# Altium integrated library Circuit Protection -TVSP_rev15a (1).intlib: 320 symbols (part 1 of 4)
Pins are listed as number, name and electrical type; pins without a type are passive.

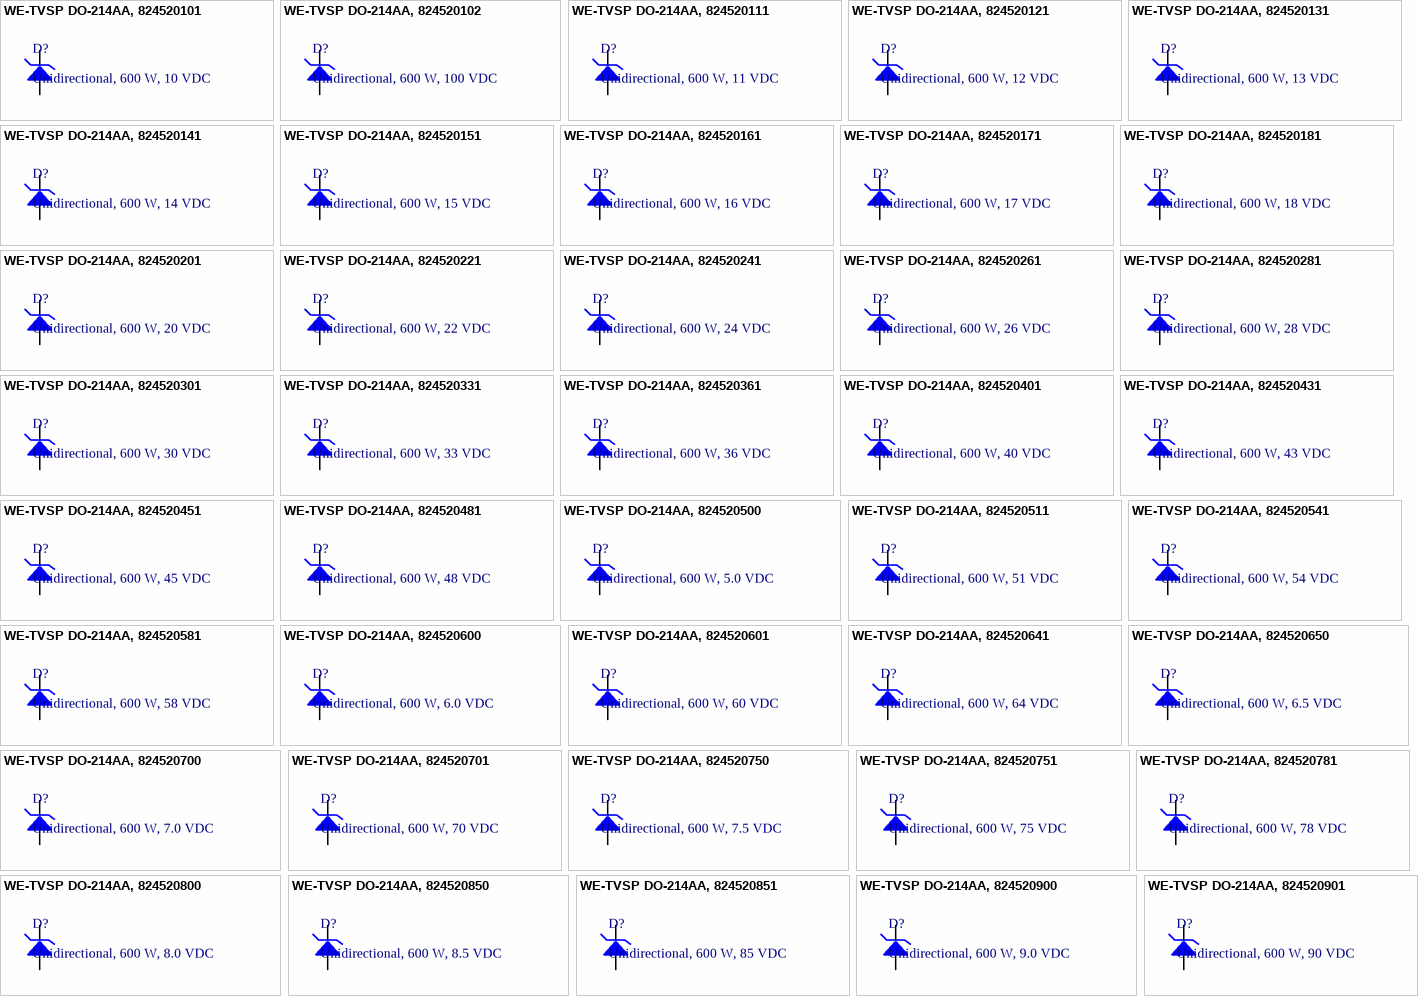
[diagram p0: symbols WE-TVSP DO-214AA, 824520101 to WE-TVSP DO-214AA, 824520901]

## WE-TVSP DO-214AA, 824520101
designator D?, comment Unidirectional, 600 W, 10 VDC
WE-TVSP Power TVS Diode, Unidirectional, 600 W, 10 VDC; partNo: 824520101; Manufacturer: Wurth Elektronik; ComponentLink1Description: Manufacturer; ComponentLink1URL: http://www.we-online.de; Created by: Baojun Chen; Created Date: Nov.2015; ComponentLink2Description: Datasheet; ComponentLink2URL: http://katalog.we-online.de/pbs/datasheet/824520101.pdf
footprint DO-214AA_Unidirectional
pins: 1, 2

## WE-TVSP DO-214AA, 824520102
designator D?, comment Unidirectional, 600 W, 100 VDC
WE-TVSP Power TVS Diode, Unidirectional, 600 W, 100 VDC; partNo: 824520102; Manufacturer: Wurth Elektronik; ComponentLink1Description: Manufacturer; ComponentLink1URL: http://www.we-online.de; Created by: Baojun Chen; Created Date: Nov.2015; ComponentLink2Description: Datasheet; ComponentLink2URL: http://katalog.we-online.de/pbs/datasheet/824520102.pdf
footprint DO-214AA_Unidirectional
pins: 1, 2

## WE-TVSP DO-214AA, 824520111
designator D?, comment Unidirectional, 600 W, 11 VDC
WE-TVSP Power TVS Diode, Unidirectional, 600 W, 11 VDC; partNo: 824520111; Manufacturer: Wurth Elektronik; ComponentLink1Description: Manufacturer; ComponentLink1URL: http://www.we-online.de; Created by: Baojun Chen; Created Date: Nov.2015; ComponentLink2Description: Datasheet; ComponentLink2URL: http://katalog.we-online.de/pbs/datasheet/824520111.pdf
footprint DO-214AA_Unidirectional
pins: 1, 2

## WE-TVSP DO-214AA, 824520121
designator D?, comment Unidirectional, 600 W, 12 VDC
WE-TVSP Power TVS Diode, Unidirectional, 600 W, 12 VDC; partNo: 824520121; Manufacturer: Wurth Elektronik; ComponentLink1Description: Manufacturer; ComponentLink1URL: http://www.we-online.de; Created by: Baojun Chen; Created Date: Nov.2015; ComponentLink2Description: Datasheet; ComponentLink2URL: http://katalog.we-online.de/pbs/datasheet/824520121.pdf
footprint DO-214AA_Unidirectional
pins: 1, 2

## WE-TVSP DO-214AA, 824520131
designator D?, comment Unidirectional, 600 W, 13 VDC
WE-TVSP Power TVS Diode, Unidirectional, 600 W, 13 VDC; partNo: 824520131; Manufacturer: Wurth Elektronik; ComponentLink1Description: Manufacturer; ComponentLink1URL: http://www.we-online.de; Created by: Baojun Chen; Created Date: Nov.2015; ComponentLink2Description: Datasheet; ComponentLink2URL: http://katalog.we-online.de/pbs/datasheet/824520131.pdf
footprint DO-214AA_Unidirectional
pins: 1, 2

## WE-TVSP DO-214AA, 824520141
designator D?, comment Unidirectional, 600 W, 14 VDC
WE-TVSP Power TVS Diode, Unidirectional, 600 W, 14 VDC; partNo: 824520141; Manufacturer: Wurth Elektronik; ComponentLink1Description: Manufacturer; ComponentLink1URL: http://www.we-online.de; Created by: Baojun Chen; Created Date: Nov.2015; ComponentLink2Description: Datasheet; ComponentLink2URL: http://katalog.we-online.de/pbs/datasheet/824520141.pdf
footprint DO-214AA_Unidirectional
pins: 1, 2

## WE-TVSP DO-214AA, 824520151
designator D?, comment Unidirectional, 600 W, 15 VDC
WE-TVSP Power TVS Diode, Unidirectional, 600 W, 15 VDC; partNo: 824520151; Manufacturer: Wurth Elektronik; ComponentLink1Description: Manufacturer; ComponentLink1URL: http://www.we-online.de; Created by: Baojun Chen; Created Date: Nov.2015; ComponentLink2Description: Datasheet; ComponentLink2URL: http://katalog.we-online.de/pbs/datasheet/824520151.pdf
footprint DO-214AA_Unidirectional
pins: 1, 2

## WE-TVSP DO-214AA, 824520161
designator D?, comment Unidirectional, 600 W, 16 VDC
WE-TVSP Power TVS Diode, Unidirectional, 600 W, 16 VDC; partNo: 824520161; Manufacturer: Wurth Elektronik; ComponentLink1Description: Manufacturer; ComponentLink1URL: http://www.we-online.de; Created by: Baojun Chen; Created Date: Nov.2015; ComponentLink2Description: Datasheet; ComponentLink2URL: http://katalog.we-online.de/pbs/datasheet/824520161.pdf
footprint DO-214AA_Unidirectional
pins: 1, 2

## WE-TVSP DO-214AA, 824520171
designator D?, comment Unidirectional, 600 W, 17 VDC
WE-TVSP Power TVS Diode, Unidirectional, 600 W, 17 VDC; partNo: 824520171; Manufacturer: Wurth Elektronik; ComponentLink1Description: Manufacturer; ComponentLink1URL: http://www.we-online.de; Created by: Baojun Chen; Created Date: Nov.2015; ComponentLink2Description: Datasheet; ComponentLink2URL: http://katalog.we-online.de/pbs/datasheet/824520171.pdf
footprint DO-214AA_Unidirectional
pins: 1, 2

## WE-TVSP DO-214AA, 824520181
designator D?, comment Unidirectional, 600 W, 18 VDC
WE-TVSP Power TVS Diode, Unidirectional, 600 W, 18 VDC; partNo: 824520181; Manufacturer: Wurth Elektronik; ComponentLink1Description: Manufacturer; ComponentLink1URL: http://www.we-online.de; Created by: Baojun Chen; Created Date: Nov.2015; ComponentLink2Description: Datasheet; ComponentLink2URL: http://katalog.we-online.de/pbs/datasheet/824520181.pdf
footprint DO-214AA_Unidirectional
pins: 1, 2

## WE-TVSP DO-214AA, 824520201
designator D?, comment Unidirectional, 600 W, 20 VDC
WE-TVSP Power TVS Diode, Unidirectional, 600 W, 20 VDC; partNo: 824520201; Manufacturer: Wurth Elektronik; ComponentLink1Description: Manufacturer; ComponentLink1URL: http://www.we-online.de; Created by: Baojun Chen; Created Date: Nov.2015; ComponentLink2Description: Datasheet; ComponentLink2URL: http://katalog.we-online.de/pbs/datasheet/824520201.pdf
footprint DO-214AA_Unidirectional
pins: 1, 2

## WE-TVSP DO-214AA, 824520221
designator D?, comment Unidirectional, 600 W, 22 VDC
WE-TVSP Power TVS Diode, Unidirectional, 600 W, 22 VDC; partNo: 824520221; Manufacturer: Wurth Elektronik; ComponentLink1Description: Manufacturer; ComponentLink1URL: http://www.we-online.de; Created by: Baojun Chen; Created Date: Nov.2015; ComponentLink2Description: Datasheet; ComponentLink2URL: http://katalog.we-online.de/pbs/datasheet/824520221.pdf
footprint DO-214AA_Unidirectional
pins: 1, 2

## WE-TVSP DO-214AA, 824520241
designator D?, comment Unidirectional, 600 W, 24 VDC
WE-TVSP Power TVS Diode, Unidirectional, 600 W, 24 VDC; partNo: 824520241; Manufacturer: Wurth Elektronik; ComponentLink1Description: Manufacturer; ComponentLink1URL: http://www.we-online.de; Created by: Baojun Chen; Created Date: Nov.2015; ComponentLink2Description: Datasheet; ComponentLink2URL: http://katalog.we-online.de/pbs/datasheet/824520241.pdf
footprint DO-214AA_Unidirectional
pins: 1, 2

## WE-TVSP DO-214AA, 824520261
designator D?, comment Unidirectional, 600 W, 26 VDC
WE-TVSP Power TVS Diode, Unidirectional, 600 W, 26 VDC; partNo: 824520261; Manufacturer: Wurth Elektronik; ComponentLink1Description: Manufacturer; ComponentLink1URL: http://www.we-online.de; Created by: Baojun Chen; Created Date: Nov.2015; ComponentLink2Description: Datasheet; ComponentLink2URL: http://katalog.we-online.de/pbs/datasheet/824520261.pdf
footprint DO-214AA_Unidirectional
pins: 1, 2

## WE-TVSP DO-214AA, 824520281
designator D?, comment Unidirectional, 600 W, 28 VDC
WE-TVSP Power TVS Diode, Unidirectional, 600 W, 28 VDC; partNo: 824520281; Manufacturer: Wurth Elektronik; ComponentLink1Description: Manufacturer; ComponentLink1URL: http://www.we-online.de; Created by: Baojun Chen; Created Date: Nov.2015; ComponentLink2Description: Datasheet; ComponentLink2URL: http://katalog.we-online.de/pbs/datasheet/824520281.pdf
footprint DO-214AA_Unidirectional
pins: 1, 2

## WE-TVSP DO-214AA, 824520301
designator D?, comment Unidirectional, 600 W, 30 VDC
WE-TVSP Power TVS Diode, Unidirectional, 600 W, 30 VDC; partNo: 824520301; Manufacturer: Wurth Elektronik; ComponentLink1Description: Manufacturer; ComponentLink1URL: http://www.we-online.de; Created by: Baojun Chen; Created Date: Nov.2015; ComponentLink2Description: Datasheet; ComponentLink2URL: http://katalog.we-online.de/pbs/datasheet/824520301.pdf
footprint DO-214AA_Unidirectional
pins: 1, 2

## WE-TVSP DO-214AA, 824520331
designator D?, comment Unidirectional, 600 W, 33 VDC
WE-TVSP Power TVS Diode, Unidirectional, 600 W, 33 VDC; partNo: 824520331; Manufacturer: Wurth Elektronik; ComponentLink1Description: Manufacturer; ComponentLink1URL: http://www.we-online.de; Created by: Baojun Chen; Created Date: Nov.2015; ComponentLink2Description: Datasheet; ComponentLink2URL: http://katalog.we-online.de/pbs/datasheet/824520331.pdf
footprint DO-214AA_Unidirectional
pins: 1, 2

## WE-TVSP DO-214AA, 824520361
designator D?, comment Unidirectional, 600 W, 36 VDC
WE-TVSP Power TVS Diode, Unidirectional, 600 W, 36 VDC; partNo: 824520361; Manufacturer: Wurth Elektronik; ComponentLink1Description: Manufacturer; ComponentLink1URL: http://www.we-online.de; Created by: Baojun Chen; Created Date: Nov.2015; ComponentLink2Description: Datasheet; ComponentLink2URL: http://katalog.we-online.de/pbs/datasheet/824520361.pdf
footprint DO-214AA_Unidirectional
pins: 1, 2

## WE-TVSP DO-214AA, 824520401
designator D?, comment Unidirectional, 600 W, 40 VDC
WE-TVSP Power TVS Diode, Unidirectional, 600 W, 40 VDC; partNo: 824520401; Manufacturer: Wurth Elektronik; ComponentLink1Description: Manufacturer; ComponentLink1URL: http://www.we-online.de; Created by: Baojun Chen; Created Date: Nov.2015; ComponentLink2Description: Datasheet; ComponentLink2URL: http://katalog.we-online.de/pbs/datasheet/824520401.pdf
footprint DO-214AA_Unidirectional
pins: 1, 2

## WE-TVSP DO-214AA, 824520431
designator D?, comment Unidirectional, 600 W, 43 VDC
WE-TVSP Power TVS Diode, Unidirectional, 600 W, 43 VDC; partNo: 824520431; Manufacturer: Wurth Elektronik; ComponentLink1Description: Manufacturer; ComponentLink1URL: http://www.we-online.de; Created by: Baojun Chen; Created Date: Nov.2015; ComponentLink2Description: Datasheet; ComponentLink2URL: http://katalog.we-online.de/pbs/datasheet/824520431.pdf
footprint DO-214AA_Unidirectional
pins: 1, 2

## WE-TVSP DO-214AA, 824520451
designator D?, comment Unidirectional, 600 W, 45 VDC
WE-TVSP Power TVS Diode, Unidirectional, 600 W, 45 VDC; partNo: 824520451; Manufacturer: Wurth Elektronik; ComponentLink1Description: Manufacturer; ComponentLink1URL: http://www.we-online.de; Created by: Baojun Chen; Created Date: Nov.2015; ComponentLink2Description: Datasheet; ComponentLink2URL: http://katalog.we-online.de/pbs/datasheet/824520451.pdf
footprint DO-214AA_Unidirectional
pins: 1, 2

## WE-TVSP DO-214AA, 824520481
designator D?, comment Unidirectional, 600 W, 48 VDC
WE-TVSP Power TVS Diode, Unidirectional, 600 W, 48 VDC; partNo: 824520481; Manufacturer: Wurth Elektronik; ComponentLink1Description: Manufacturer; ComponentLink1URL: http://www.we-online.de; Created by: Baojun Chen; Created Date: Nov.2015; ComponentLink2Description: Datasheet; ComponentLink2URL: http://katalog.we-online.de/pbs/datasheet/824520481.pdf
footprint DO-214AA_Unidirectional
pins: 1, 2

## WE-TVSP DO-214AA, 824520500
designator D?, comment Unidirectional, 600 W, 5.0 VDC
WE-TVSP Power TVS Diode, Unidirectional, 600 W, 5.0 VDC; partNo: 824520500; Manufacturer: Wurth Elektronik; ComponentLink1Description: Manufacturer; ComponentLink1URL: http://www.we-online.de; Created by: Baojun Chen; Created Date: Nov.2015; ComponentLink2Description: Datasheet; ComponentLink2URL: http://katalog.we-online.de/pbs/datasheet/824520500.pdf
footprint DO-214AA_Unidirectional
pins: 1, 2

## WE-TVSP DO-214AA, 824520511
designator D?, comment Unidirectional, 600 W, 51 VDC
WE-TVSP Power TVS Diode, Unidirectional, 600 W, 51 VDC; partNo: 824520511; Manufacturer: Wurth Elektronik; ComponentLink1Description: Manufacturer; ComponentLink1URL: http://www.we-online.de; Created by: Baojun Chen; Created Date: Nov.2015; ComponentLink2Description: Datasheet; ComponentLink2URL: http://katalog.we-online.de/pbs/datasheet/824520511.pdf
footprint DO-214AA_Unidirectional
pins: 1, 2

## WE-TVSP DO-214AA, 824520541
designator D?, comment Unidirectional, 600 W, 54 VDC
WE-TVSP Power TVS Diode, Unidirectional, 600 W, 54 VDC; partNo: 824520541; Manufacturer: Wurth Elektronik; ComponentLink1Description: Manufacturer; ComponentLink1URL: http://www.we-online.de; Created by: Baojun Chen; Created Date: Nov.2015; ComponentLink2Description: Datasheet; ComponentLink2URL: http://katalog.we-online.de/pbs/datasheet/824520541.pdf
footprint DO-214AA_Unidirectional
pins: 1, 2

## WE-TVSP DO-214AA, 824520581
designator D?, comment Unidirectional, 600 W, 58 VDC
WE-TVSP Power TVS Diode, Unidirectional, 600 W, 58 VDC; partNo: 824520581; Manufacturer: Wurth Elektronik; ComponentLink1Description: Manufacturer; ComponentLink1URL: http://www.we-online.de; Created by: Baojun Chen; Created Date: Nov.2015; ComponentLink2Description: Datasheet; ComponentLink2URL: http://katalog.we-online.de/pbs/datasheet/824520581.pdf
footprint DO-214AA_Unidirectional
pins: 1, 2

## WE-TVSP DO-214AA, 824520600
designator D?, comment Unidirectional, 600 W, 6.0 VDC
WE-TVSP Power TVS Diode, Unidirectional, 600 W, 6.0 VDC; partNo: 824520600; Manufacturer: Wurth Elektronik; ComponentLink1Description: Manufacturer; ComponentLink1URL: http://www.we-online.de; Created by: Baojun Chen; Created Date: Nov.2015; ComponentLink2Description: Datasheet; ComponentLink2URL: http://katalog.we-online.de/pbs/datasheet/824520600.pdf
footprint DO-214AA_Unidirectional
pins: 1, 2

## WE-TVSP DO-214AA, 824520601
designator D?, comment Unidirectional, 600 W, 60 VDC
WE-TVSP Power TVS Diode, Unidirectional, 600 W, 60 VDC; partNo: 824520601; Manufacturer: Wurth Elektronik; ComponentLink1Description: Manufacturer; ComponentLink1URL: http://www.we-online.de; Created by: Baojun Chen; Created Date: Nov.2015; ComponentLink2Description: Datasheet; ComponentLink2URL: http://katalog.we-online.de/pbs/datasheet/824520601.pdf
footprint DO-214AA_Unidirectional
pins: 1, 2

## WE-TVSP DO-214AA, 824520641
designator D?, comment Unidirectional, 600 W, 64 VDC
WE-TVSP Power TVS Diode, Unidirectional, 600 W, 64 VDC; partNo: 824520641; Manufacturer: Wurth Elektronik; ComponentLink1Description: Manufacturer; ComponentLink1URL: http://www.we-online.de; Created by: Baojun Chen; Created Date: Nov.2015; ComponentLink2Description: Datasheet; ComponentLink2URL: http://katalog.we-online.de/pbs/datasheet/824520641.pdf
footprint DO-214AA_Unidirectional
pins: 1, 2

## WE-TVSP DO-214AA, 824520650
designator D?, comment Unidirectional, 600 W, 6.5 VDC
WE-TVSP Power TVS Diode, Unidirectional, 600 W, 6.5 VDC; partNo: 824520650; Manufacturer: Wurth Elektronik; ComponentLink1Description: Manufacturer; ComponentLink1URL: http://www.we-online.de; Created by: Baojun Chen; Created Date: Nov.2015; ComponentLink2Description: Datasheet; ComponentLink2URL: http://katalog.we-online.de/pbs/datasheet/824520650.pdf
footprint DO-214AA_Unidirectional
pins: 1, 2

## WE-TVSP DO-214AA, 824520700
designator D?, comment Unidirectional, 600 W, 7.0 VDC
WE-TVSP Power TVS Diode, Unidirectional, 600 W, 7.0 VDC; partNo: 824520700; Manufacturer: Wurth Elektronik; ComponentLink1Description: Manufacturer; ComponentLink1URL: http://www.we-online.de; Created by: Baojun Chen; Created Date: Nov.2015; ComponentLink2Description: Datasheet; ComponentLink2URL: http://katalog.we-online.de/pbs/datasheet/824520700.pdf
footprint DO-214AA_Unidirectional
pins: 1, 2

## WE-TVSP DO-214AA, 824520701
designator D?, comment Unidirectional, 600 W, 70 VDC
WE-TVSP Power TVS Diode, Unidirectional, 600 W, 70 VDC; partNo: 824520701; Manufacturer: Wurth Elektronik; ComponentLink1Description: Manufacturer; ComponentLink1URL: http://www.we-online.de; Created by: Baojun Chen; Created Date: Nov.2015; ComponentLink2Description: Datasheet; ComponentLink2URL: http://katalog.we-online.de/pbs/datasheet/824520701.pdf
footprint DO-214AA_Unidirectional
pins: 1, 2

## WE-TVSP DO-214AA, 824520750
designator D?, comment Unidirectional, 600 W, 7.5 VDC
WE-TVSP Power TVS Diode, Unidirectional, 600 W, 7.5 VDC; partNo: 824520750; Manufacturer: Wurth Elektronik; ComponentLink1Description: Manufacturer; ComponentLink1URL: http://www.we-online.de; Created by: Baojun Chen; Created Date: Nov.2015; ComponentLink2Description: Datasheet; ComponentLink2URL: http://katalog.we-online.de/pbs/datasheet/824520750.pdf
footprint DO-214AA_Unidirectional
pins: 1, 2

## WE-TVSP DO-214AA, 824520751
designator D?, comment Unidirectional, 600 W, 75 VDC
WE-TVSP Power TVS Diode, Unidirectional, 600 W, 75 VDC; partNo: 824520751; Manufacturer: Wurth Elektronik; ComponentLink1Description: Manufacturer; ComponentLink1URL: http://www.we-online.de; Created by: Baojun Chen; Created Date: Nov.2015; ComponentLink2Description: Datasheet; ComponentLink2URL: http://katalog.we-online.de/pbs/datasheet/824520751.pdf
footprint DO-214AA_Unidirectional
pins: 1, 2

## WE-TVSP DO-214AA, 824520781
designator D?, comment Unidirectional, 600 W, 78 VDC
WE-TVSP Power TVS Diode, Unidirectional, 600 W, 78 VDC; partNo: 824520781; Manufacturer: Wurth Elektronik; ComponentLink1Description: Manufacturer; ComponentLink1URL: http://www.we-online.de; Created by: Baojun Chen; Created Date: Nov.2015; ComponentLink2Description: Datasheet; ComponentLink2URL: http://katalog.we-online.de/pbs/datasheet/824520781.pdf
footprint DO-214AA_Unidirectional
pins: 1, 2

## WE-TVSP DO-214AA, 824520800
designator D?, comment Unidirectional, 600 W, 8.0 VDC
WE-TVSP Power TVS Diode, Unidirectional, 600 W, 8.0 VDC; partNo: 824520800; Manufacturer: Wurth Elektronik; ComponentLink1Description: Manufacturer; ComponentLink1URL: http://www.we-online.de; Created by: Baojun Chen; Created Date: Nov.2015; ComponentLink2Description: Datasheet; ComponentLink2URL: http://katalog.we-online.de/pbs/datasheet/824520800.pdf
footprint DO-214AA_Unidirectional
pins: 1, 2

## WE-TVSP DO-214AA, 824520850
designator D?, comment Unidirectional, 600 W, 8.5 VDC
WE-TVSP Power TVS Diode, Unidirectional, 600 W, 8.5 VDC; partNo: 824520850; Manufacturer: Wurth Elektronik; ComponentLink1Description: Manufacturer; ComponentLink1URL: http://www.we-online.de; Created by: Baojun Chen; Created Date: Nov.2015; ComponentLink2Description: Datasheet; ComponentLink2URL: http://katalog.we-online.de/pbs/datasheet/824520850.pdf
footprint DO-214AA_Unidirectional
pins: 1, 2

## WE-TVSP DO-214AA, 824520851
designator D?, comment Unidirectional, 600 W, 85 VDC
WE-TVSP Power TVS Diode, Unidirectional, 600 W, 85 VDC; partNo: 824520851; Manufacturer: Wurth Elektronik; ComponentLink1Description: Manufacturer; ComponentLink1URL: http://www.we-online.de; Created by: Baojun Chen; Created Date: Nov.2015; ComponentLink2Description: Datasheet; ComponentLink2URL: http://katalog.we-online.de/pbs/datasheet/824520851.pdf
footprint DO-214AA_Unidirectional
pins: 1, 2

## WE-TVSP DO-214AA, 824520900
designator D?, comment Unidirectional, 600 W, 9.0 VDC
WE-TVSP Power TVS Diode, Unidirectional, 600 W, 9.0 VDC; partNo: 824520900; Manufacturer: Wurth Elektronik; ComponentLink1Description: Manufacturer; ComponentLink1URL: http://www.we-online.de; Created by: Baojun Chen; Created Date: Nov.2015; ComponentLink2Description: Datasheet; ComponentLink2URL: http://katalog.we-online.de/pbs/datasheet/824520900.pdf
footprint DO-214AA_Unidirectional
pins: 1, 2

## WE-TVSP DO-214AA, 824520901
designator D?, comment Unidirectional, 600 W, 90 VDC
WE-TVSP Power TVS Diode, Unidirectional, 600 W, 90 VDC; partNo: 824520901; Manufacturer: Wurth Elektronik; ComponentLink1Description: Manufacturer; ComponentLink1URL: http://www.we-online.de; Created by: Baojun Chen; Created Date: Nov.2015; ComponentLink2Description: Datasheet; ComponentLink2URL: http://katalog.we-online.de/pbs/datasheet/824520901.pdf
footprint DO-214AA_Unidirectional
pins: 1, 2


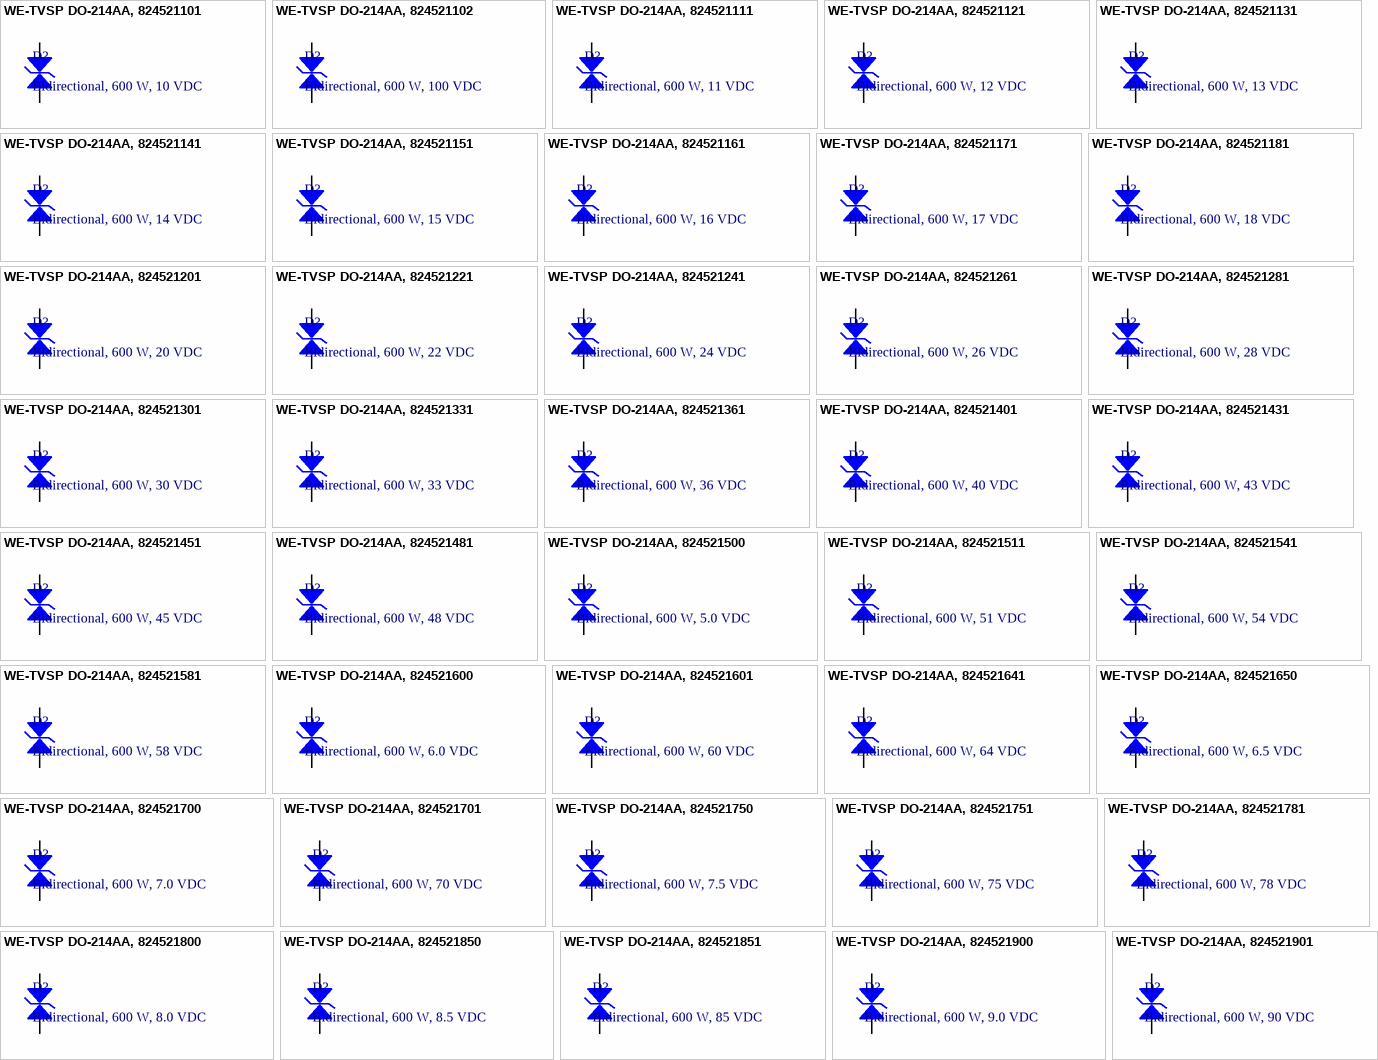
[diagram p1: symbols WE-TVSP DO-214AA, 824521101 to WE-TVSP DO-214AA, 824521901]

## WE-TVSP DO-214AA, 824521101
designator D?, comment Bidirectional, 600 W, 10 VDC
WE-TVSP Power TVS Diode, bidirectional, 600 W, 10 VDC; partNo: 824521101; Manufacturer: Wurth Elektronik; ComponentLink1Description: Manufacturer; ComponentLink1URL: http://www.we-online.de; Created by: Baojun Chen; Created Date: Nov.2015; ComponentLink2Description: Datasheet; ComponentLink2URL: http://katalog.we-online.de/pbs/datasheet/824521101.pdf
footprint DO-214AA_Bidirectional
pins: 1, 2

## WE-TVSP DO-214AA, 824521102
designator D?, comment Bidirectional, 600 W, 100 VDC
WE-TVSP Power TVS Diode, bidirectional, 600 W, 100 VDC; partNo: 824521102; Manufacturer: Wurth Elektronik; ComponentLink1Description: Manufacturer; ComponentLink1URL: http://www.we-online.de; Created by: Baojun Chen; Created Date: Nov.2015; ComponentLink2Description: Datasheet; ComponentLink2URL: http://katalog.we-online.de/pbs/datasheet/824521102.pdf
footprint DO-214AA_Bidirectional
pins: 1, 2

## WE-TVSP DO-214AA, 824521111
designator D?, comment Bidirectional, 600 W, 11 VDC
WE-TVSP Power TVS Diode, bidirectional, 600 W, 11 VDC; partNo: 824521111; Manufacturer: Wurth Elektronik; ComponentLink1Description: Manufacturer; ComponentLink1URL: http://www.we-online.de; Created by: Baojun Chen; Created Date: Nov.2015; ComponentLink2Description: Datasheet; ComponentLink2URL: http://katalog.we-online.de/pbs/datasheet/824521111.pdf
footprint DO-214AA_Bidirectional
pins: 1, 2

## WE-TVSP DO-214AA, 824521121
designator D?, comment Bidirectional, 600 W, 12 VDC
WE-TVSP Power TVS Diode, bidirectional, 600 W, 12 VDC; partNo: 824521121; Manufacturer: Wurth Elektronik; ComponentLink1Description: Manufacturer; ComponentLink1URL: http://www.we-online.de; Created by: Baojun Chen; Created Date: Nov.2015; ComponentLink2Description: Datasheet; ComponentLink2URL: http://katalog.we-online.de/pbs/datasheet/824521121.pdf
footprint DO-214AA_Bidirectional
pins: 1, 2

## WE-TVSP DO-214AA, 824521131
designator D?, comment Bidirectional, 600 W, 13 VDC
WE-TVSP Power TVS Diode, bidirectional, 600 W, 13 VDC; partNo: 824521131; Manufacturer: Wurth Elektronik; ComponentLink1Description: Manufacturer; ComponentLink1URL: http://www.we-online.de; Created by: Baojun Chen; Created Date: Nov.2015; ComponentLink2Description: Datasheet; ComponentLink2URL: http://katalog.we-online.de/pbs/datasheet/824521131.pdf
footprint DO-214AA_Bidirectional
pins: 1, 2

## WE-TVSP DO-214AA, 824521141
designator D?, comment Bidirectional, 600 W, 14 VDC
WE-TVSP Power TVS Diode, bidirectional, 600 W, 14 VDC; partNo: 824521141; Manufacturer: Wurth Elektronik; ComponentLink1Description: Manufacturer; ComponentLink1URL: http://www.we-online.de; Created by: Baojun Chen; Created Date: Nov.2015; ComponentLink2Description: Datasheet; ComponentLink2URL: http://katalog.we-online.de/pbs/datasheet/824521141.pdf
footprint DO-214AA_Bidirectional
pins: 1, 2

## WE-TVSP DO-214AA, 824521151
designator D?, comment Bidirectional, 600 W, 15 VDC
WE-TVSP Power TVS Diode, bidirectional, 600 W, 15 VDC; partNo: 824521151; Manufacturer: Wurth Elektronik; ComponentLink1Description: Manufacturer; ComponentLink1URL: http://www.we-online.de; Created by: Baojun Chen; Created Date: Nov.2015; ComponentLink2Description: Datasheet; ComponentLink2URL: http://katalog.we-online.de/pbs/datasheet/824521151.pdf
footprint DO-214AA_Bidirectional
pins: 1, 2

## WE-TVSP DO-214AA, 824521161
designator D?, comment Bidirectional, 600 W, 16 VDC
WE-TVSP Power TVS Diode, bidirectional, 600 W, 16 VDC; partNo: 824521161; Manufacturer: Wurth Elektronik; ComponentLink1Description: Manufacturer; ComponentLink1URL: http://www.we-online.de; Created by: Baojun Chen; Created Date: Nov.2015; ComponentLink2Description: Datasheet; ComponentLink2URL: http://katalog.we-online.de/pbs/datasheet/824521161.pdf
footprint DO-214AA_Bidirectional
pins: 1, 2

## WE-TVSP DO-214AA, 824521171
designator D?, comment Bidirectional, 600 W, 17 VDC
WE-TVSP Power TVS Diode, bidirectional, 600 W, 17 VDC; partNo: 824521171; Manufacturer: Wurth Elektronik; ComponentLink1Description: Manufacturer; ComponentLink1URL: http://www.we-online.de; Created by: Baojun Chen; Created Date: Nov.2015; ComponentLink2Description: Datasheet; ComponentLink2URL: http://katalog.we-online.de/pbs/datasheet/824521171.pdf
footprint DO-214AA_Bidirectional
pins: 1, 2

## WE-TVSP DO-214AA, 824521181
designator D?, comment Bidirectional, 600 W, 18 VDC
WE-TVSP Power TVS Diode, bidirectional, 600 W, 18 VDC; partNo: 824521181; Manufacturer: Wurth Elektronik; ComponentLink1Description: Manufacturer; ComponentLink1URL: http://www.we-online.de; Created by: Baojun Chen; Created Date: Nov.2015; ComponentLink2Description: Datasheet; ComponentLink2URL: http://katalog.we-online.de/pbs/datasheet/824521181.pdf
footprint DO-214AA_Bidirectional
pins: 1, 2

## WE-TVSP DO-214AA, 824521201
designator D?, comment Bidirectional, 600 W, 20 VDC
WE-TVSP Power TVS Diode, bidirectional, 600 W, 20 VDC; partNo: 824521201; Manufacturer: Wurth Elektronik; ComponentLink1Description: Manufacturer; ComponentLink1URL: http://www.we-online.de; Created by: Baojun Chen; Created Date: Nov.2015; ComponentLink2Description: Datasheet; ComponentLink2URL: http://katalog.we-online.de/pbs/datasheet/824521201.pdf
footprint DO-214AA_Bidirectional
pins: 1, 2

## WE-TVSP DO-214AA, 824521221
designator D?, comment Bidirectional, 600 W, 22 VDC
WE-TVSP Power TVS Diode, bidirectional, 600 W, 22 VDC; partNo: 824521221; Manufacturer: Wurth Elektronik; ComponentLink1Description: Manufacturer; ComponentLink1URL: http://www.we-online.de; Created by: Baojun Chen; Created Date: Nov.2015; ComponentLink2Description: Datasheet; ComponentLink2URL: http://katalog.we-online.de/pbs/datasheet/824521221.pdf
footprint DO-214AA_Bidirectional
pins: 1, 2

## WE-TVSP DO-214AA, 824521241
designator D?, comment Bidirectional, 600 W, 24 VDC
WE-TVSP Power TVS Diode, bidirectional, 600 W, 24 VDC; partNo: 824521241; Manufacturer: Wurth Elektronik; ComponentLink1Description: Manufacturer; ComponentLink1URL: http://www.we-online.de; Created by: Baojun Chen; Created Date: Nov.2015; ComponentLink2Description: Datasheet; ComponentLink2URL: http://katalog.we-online.de/pbs/datasheet/824521241.pdf
footprint DO-214AA_Bidirectional
pins: 1, 2

## WE-TVSP DO-214AA, 824521261
designator D?, comment Bidirectional, 600 W, 26 VDC
WE-TVSP Power TVS Diode, bidirectional, 600 W, 26 VDC; partNo: 824521261; Manufacturer: Wurth Elektronik; ComponentLink1Description: Manufacturer; ComponentLink1URL: http://www.we-online.de; Created by: Baojun Chen; Created Date: Nov.2015; ComponentLink2Description: Datasheet; ComponentLink2URL: http://katalog.we-online.de/pbs/datasheet/824521261.pdf
footprint DO-214AA_Bidirectional
pins: 1, 2

## WE-TVSP DO-214AA, 824521281
designator D?, comment Bidirectional, 600 W, 28 VDC
WE-TVSP Power TVS Diode, bidirectional, 600 W, 28 VDC; partNo: 824521281; Manufacturer: Wurth Elektronik; ComponentLink1Description: Manufacturer; ComponentLink1URL: http://www.we-online.de; Created by: Baojun Chen; Created Date: Nov.2015; ComponentLink2Description: Datasheet; ComponentLink2URL: http://katalog.we-online.de/pbs/datasheet/824521281.pdf
footprint DO-214AA_Bidirectional
pins: 1, 2

## WE-TVSP DO-214AA, 824521301
designator D?, comment Bidirectional, 600 W, 30 VDC
WE-TVSP Power TVS Diode, bidirectional, 600 W, 30 VDC; partNo: 824521301; Manufacturer: Wurth Elektronik; ComponentLink1Description: Manufacturer; ComponentLink1URL: http://www.we-online.de; Created by: Baojun Chen; Created Date: Nov.2015; ComponentLink2Description: Datasheet; ComponentLink2URL: http://katalog.we-online.de/pbs/datasheet/824521301.pdf
footprint DO-214AA_Bidirectional
pins: 1, 2

## WE-TVSP DO-214AA, 824521331
designator D?, comment Bidirectional, 600 W, 33 VDC
WE-TVSP Power TVS Diode, bidirectional, 600 W, 33 VDC; partNo: 824521331; Manufacturer: Wurth Elektronik; ComponentLink1Description: Manufacturer; ComponentLink1URL: http://www.we-online.de; Created by: Baojun Chen; Created Date: Nov.2015; ComponentLink2Description: Datasheet; ComponentLink2URL: http://katalog.we-online.de/pbs/datasheet/824521331.pdf
footprint DO-214AA_Bidirectional
pins: 1, 2

## WE-TVSP DO-214AA, 824521361
designator D?, comment Bidirectional, 600 W, 36 VDC
WE-TVSP Power TVS Diode, bidirectional, 600 W, 36 VDC; partNo: 824521361; Manufacturer: Wurth Elektronik; ComponentLink1Description: Manufacturer; ComponentLink1URL: http://www.we-online.de; Created by: Baojun Chen; Created Date: Nov.2015; ComponentLink2Description: Datasheet; ComponentLink2URL: http://katalog.we-online.de/pbs/datasheet/824521361.pdf
footprint DO-214AA_Bidirectional
pins: 1, 2

## WE-TVSP DO-214AA, 824521401
designator D?, comment Bidirectional, 600 W, 40 VDC
WE-TVSP Power TVS Diode, bidirectional, 600 W, 40 VDC; partNo: 824521401; Manufacturer: Wurth Elektronik; ComponentLink1Description: Manufacturer; ComponentLink1URL: http://www.we-online.de; Created by: Baojun Chen; Created Date: Nov.2015; ComponentLink2Description: Datasheet; ComponentLink2URL: http://katalog.we-online.de/pbs/datasheet/824521401.pdf
footprint DO-214AA_Bidirectional
pins: 1, 2

## WE-TVSP DO-214AA, 824521431
designator D?, comment Bidirectional, 600 W, 43 VDC
WE-TVSP Power TVS Diode, bidirectional, 600 W, 43 VDC; partNo: 824521431; Manufacturer: Wurth Elektronik; ComponentLink1Description: Manufacturer; ComponentLink1URL: http://www.we-online.de; Created by: Baojun Chen; Created Date: Nov.2015; ComponentLink2Description: Datasheet; ComponentLink2URL: http://katalog.we-online.de/pbs/datasheet/824521431.pdf
footprint DO-214AA_Bidirectional
pins: 1, 2

## WE-TVSP DO-214AA, 824521451
designator D?, comment Bidirectional, 600 W, 45 VDC
WE-TVSP Power TVS Diode, bidirectional, 600 W, 45 VDC; partNo: 824521451; Manufacturer: Wurth Elektronik; ComponentLink1Description: Manufacturer; ComponentLink1URL: http://www.we-online.de; Created by: Baojun Chen; Created Date: Nov.2015; ComponentLink2Description: Datasheet; ComponentLink2URL: http://katalog.we-online.de/pbs/datasheet/824521451.pdf
footprint DO-214AA_Bidirectional
pins: 1, 2

## WE-TVSP DO-214AA, 824521481
designator D?, comment Bidirectional, 600 W, 48 VDC
WE-TVSP Power TVS Diode, bidirectional, 600 W, 48 VDC; partNo: 824521481; Manufacturer: Wurth Elektronik; ComponentLink1Description: Manufacturer; ComponentLink1URL: http://www.we-online.de; Created by: Baojun Chen; Created Date: Nov.2015; ComponentLink2Description: Datasheet; ComponentLink2URL: http://katalog.we-online.de/pbs/datasheet/824521481.pdf
footprint DO-214AA_Bidirectional
pins: 1, 2

## WE-TVSP DO-214AA, 824521500
designator D?, comment Bidirectional, 600 W, 5.0 VDC
WE-TVSP Power TVS Diode, bidirectional, 600 W, 5.0 VDC; partNo: 824521500; Manufacturer: Wurth Elektronik; ComponentLink1Description: Manufacturer; ComponentLink1URL: http://www.we-online.de; Created by: Baojun Chen; Created Date: Nov.2015; ComponentLink2Description: Datasheet; ComponentLink2URL: http://katalog.we-online.de/pbs/datasheet/824521500.pdf
footprint DO-214AA_Bidirectional
pins: 1, 2

## WE-TVSP DO-214AA, 824521511
designator D?, comment Bidirectional, 600 W, 51 VDC
WE-TVSP Power TVS Diode, bidirectional, 600 W, 51 VDC; partNo: 824521511; Manufacturer: Wurth Elektronik; ComponentLink1Description: Manufacturer; ComponentLink1URL: http://www.we-online.de; Created by: Baojun Chen; Created Date: Nov.2015; ComponentLink2Description: Datasheet; ComponentLink2URL: http://katalog.we-online.de/pbs/datasheet/824521511.pdf
footprint DO-214AA_Bidirectional
pins: 1, 2

## WE-TVSP DO-214AA, 824521541
designator D?, comment Bidirectional, 600 W, 54 VDC
WE-TVSP Power TVS Diode, bidirectional, 600 W, 54 VDC; partNo: 824521541; Manufacturer: Wurth Elektronik; ComponentLink1Description: Manufacturer; ComponentLink1URL: http://www.we-online.de; Created by: Baojun Chen; Created Date: Nov.2015; ComponentLink2Description: Datasheet; ComponentLink2URL: http://katalog.we-online.de/pbs/datasheet/824521541.pdf
footprint DO-214AA_Bidirectional
pins: 1, 2

## WE-TVSP DO-214AA, 824521581
designator D?, comment Bidirectional, 600 W, 58 VDC
WE-TVSP Power TVS Diode, bidirectional, 600 W, 58 VDC; partNo: 824521581; Manufacturer: Wurth Elektronik; ComponentLink1Description: Manufacturer; ComponentLink1URL: http://www.we-online.de; Created by: Baojun Chen; Created Date: Nov.2015; ComponentLink2Description: Datasheet; ComponentLink2URL: http://katalog.we-online.de/pbs/datasheet/824521581.pdf
footprint DO-214AA_Bidirectional
pins: 1, 2

## WE-TVSP DO-214AA, 824521600
designator D?, comment Bidirectional, 600 W, 6.0 VDC
WE-TVSP Power TVS Diode, bidirectional, 600 W, 6.0 VDC; partNo: 824521600; Manufacturer: Wurth Elektronik; ComponentLink1Description: Manufacturer; ComponentLink1URL: http://www.we-online.de; Created by: Baojun Chen; Created Date: Nov.2015; ComponentLink2Description: Datasheet; ComponentLink2URL: http://katalog.we-online.de/pbs/datasheet/824521600.pdf
footprint DO-214AA_Bidirectional
pins: 1, 2

## WE-TVSP DO-214AA, 824521601
designator D?, comment Bidirectional, 600 W, 60 VDC
WE-TVSP Power TVS Diode, bidirectional, 600 W, 60 VDC; partNo: 824521601; Manufacturer: Wurth Elektronik; ComponentLink1Description: Manufacturer; ComponentLink1URL: http://www.we-online.de; Created by: Baojun Chen; Created Date: Nov.2015; ComponentLink2Description: Datasheet; ComponentLink2URL: http://katalog.we-online.de/pbs/datasheet/824521601.pdf
footprint DO-214AA_Bidirectional
pins: 1, 2

## WE-TVSP DO-214AA, 824521641
designator D?, comment Bidirectional, 600 W, 64 VDC
WE-TVSP Power TVS Diode, bidirectional, 600 W, 64 VDC; partNo: 824521641; Manufacturer: Wurth Elektronik; ComponentLink1Description: Manufacturer; ComponentLink1URL: http://www.we-online.de; Created by: Baojun Chen; Created Date: Nov.2015; ComponentLink2Description: Datasheet; ComponentLink2URL: http://katalog.we-online.de/pbs/datasheet/824521641.pdf
footprint DO-214AA_Bidirectional
pins: 1, 2

## WE-TVSP DO-214AA, 824521650
designator D?, comment Bidirectional, 600 W, 6.5 VDC
WE-TVSP Power TVS Diode, bidirectional, 600 W, 6.5 VDC; partNo: 824521650; Manufacturer: Wurth Elektronik; ComponentLink1Description: Manufacturer; ComponentLink1URL: http://www.we-online.de; Created by: Baojun Chen; Created Date: Nov.2015; ComponentLink2Description: Datasheet; ComponentLink2URL: http://katalog.we-online.de/pbs/datasheet/824521650.pdf
footprint DO-214AA_Bidirectional
pins: 1, 2

## WE-TVSP DO-214AA, 824521700
designator D?, comment Bidirectional, 600 W, 7.0 VDC
WE-TVSP Power TVS Diode, bidirectional, 600 W, 7.0 VDC; partNo: 824521700; Manufacturer: Wurth Elektronik; ComponentLink1Description: Manufacturer; ComponentLink1URL: http://www.we-online.de; Created by: Baojun Chen; Created Date: Nov.2015; ComponentLink2Description: Datasheet; ComponentLink2URL: http://katalog.we-online.de/pbs/datasheet/824521700.pdf
footprint DO-214AA_Bidirectional
pins: 1, 2

## WE-TVSP DO-214AA, 824521701
designator D?, comment Bidirectional, 600 W, 70 VDC
WE-TVSP Power TVS Diode, bidirectional, 600 W, 70 VDC; partNo: 824521701; Manufacturer: Wurth Elektronik; ComponentLink1Description: Manufacturer; ComponentLink1URL: http://www.we-online.de; Created by: Baojun Chen; Created Date: Nov.2015; ComponentLink2Description: Datasheet; ComponentLink2URL: http://katalog.we-online.de/pbs/datasheet/824521701.pdf
footprint DO-214AA_Bidirectional
pins: 1, 2

## WE-TVSP DO-214AA, 824521750
designator D?, comment Bidirectional, 600 W, 7.5 VDC
WE-TVSP Power TVS Diode, bidirectional, 600 W, 7.5 VDC; partNo: 824521750; Manufacturer: Wurth Elektronik; ComponentLink1Description: Manufacturer; ComponentLink1URL: http://www.we-online.de; Created by: Baojun Chen; Created Date: Nov.2015; ComponentLink2Description: Datasheet; ComponentLink2URL: http://katalog.we-online.de/pbs/datasheet/824521750.pdf
footprint DO-214AA_Bidirectional
pins: 1, 2

## WE-TVSP DO-214AA, 824521751
designator D?, comment Bidirectional, 600 W, 75 VDC
WE-TVSP Power TVS Diode, bidirectional, 600 W, 75 VDC; partNo: 824521751; Manufacturer: Wurth Elektronik; ComponentLink1Description: Manufacturer; ComponentLink1URL: http://www.we-online.de; Created by: Baojun Chen; Created Date: Nov.2015; ComponentLink2Description: Datasheet; ComponentLink2URL: http://katalog.we-online.de/pbs/datasheet/824521751.pdf
footprint DO-214AA_Bidirectional
pins: 1, 2

## WE-TVSP DO-214AA, 824521781
designator D?, comment Bidirectional, 600 W, 78 VDC
WE-TVSP Power TVS Diode, bidirectional, 600 W, 78 VDC; partNo: 824521781; Manufacturer: Wurth Elektronik; ComponentLink1Description: Manufacturer; ComponentLink1URL: http://www.we-online.de; Created by: Baojun Chen; Created Date: Nov.2015; ComponentLink2Description: Datasheet; ComponentLink2URL: http://katalog.we-online.de/pbs/datasheet/824521781.pdf
footprint DO-214AA_Bidirectional
pins: 1, 2

## WE-TVSP DO-214AA, 824521800
designator D?, comment Bidirectional, 600 W, 8.0 VDC
WE-TVSP Power TVS Diode, bidirectional, 600 W, 8.0 VDC; partNo: 824521800; Manufacturer: Wurth Elektronik; ComponentLink1Description: Manufacturer; ComponentLink1URL: http://www.we-online.de; Created by: Baojun Chen; Created Date: Nov.2015; ComponentLink2Description: Datasheet; ComponentLink2URL: http://katalog.we-online.de/pbs/datasheet/824521800.pdf
footprint DO-214AA_Bidirectional
pins: 1, 2

## WE-TVSP DO-214AA, 824521850
designator D?, comment Bidirectional, 600 W, 8.5 VDC
WE-TVSP Power TVS Diode, bidirectional, 600 W, 8.5 VDC; partNo: 824521850; Manufacturer: Wurth Elektronik; ComponentLink1Description: Manufacturer; ComponentLink1URL: http://www.we-online.de; Created by: Baojun Chen; Created Date: Nov.2015; ComponentLink2Description: Datasheet; ComponentLink2URL: http://katalog.we-online.de/pbs/datasheet/824521850.pdf
footprint DO-214AA_Bidirectional
pins: 1, 2

## WE-TVSP DO-214AA, 824521851
designator D?, comment Bidirectional, 600 W, 85 VDC
WE-TVSP Power TVS Diode, bidirectional, 600 W, 85 VDC; partNo: 824521851; Manufacturer: Wurth Elektronik; ComponentLink1Description: Manufacturer; ComponentLink1URL: http://www.we-online.de; Created by: Baojun Chen; Created Date: Nov.2015; ComponentLink2Description: Datasheet; ComponentLink2URL: http://katalog.we-online.de/pbs/datasheet/824521851.pdf
footprint DO-214AA_Bidirectional
pins: 1, 2

## WE-TVSP DO-214AA, 824521900
designator D?, comment Bidirectional, 600 W, 9.0 VDC
WE-TVSP Power TVS Diode, bidirectional, 600 W, 9.0 VDC; partNo: 824521900; Manufacturer: Wurth Elektronik; ComponentLink1Description: Manufacturer; ComponentLink1URL: http://www.we-online.de; Created by: Baojun Chen; Created Date: Nov.2015; ComponentLink2Description: Datasheet; ComponentLink2URL: http://katalog.we-online.de/pbs/datasheet/824521900.pdf
footprint DO-214AA_Bidirectional
pins: 1, 2

## WE-TVSP DO-214AA, 824521901
designator D?, comment Bidirectional, 600 W, 90 VDC
WE-TVSP Power TVS Diode, bidirectional, 600 W, 90 VDC; partNo: 824521901; Manufacturer: Wurth Elektronik; ComponentLink1Description: Manufacturer; ComponentLink1URL: http://www.we-online.de; Created by: Baojun Chen; Created Date: Nov.2015; ComponentLink2Description: Datasheet; ComponentLink2URL: http://katalog.we-online.de/pbs/datasheet/824521901.pdf
footprint DO-214AA_Bidirectional
pins: 1, 2


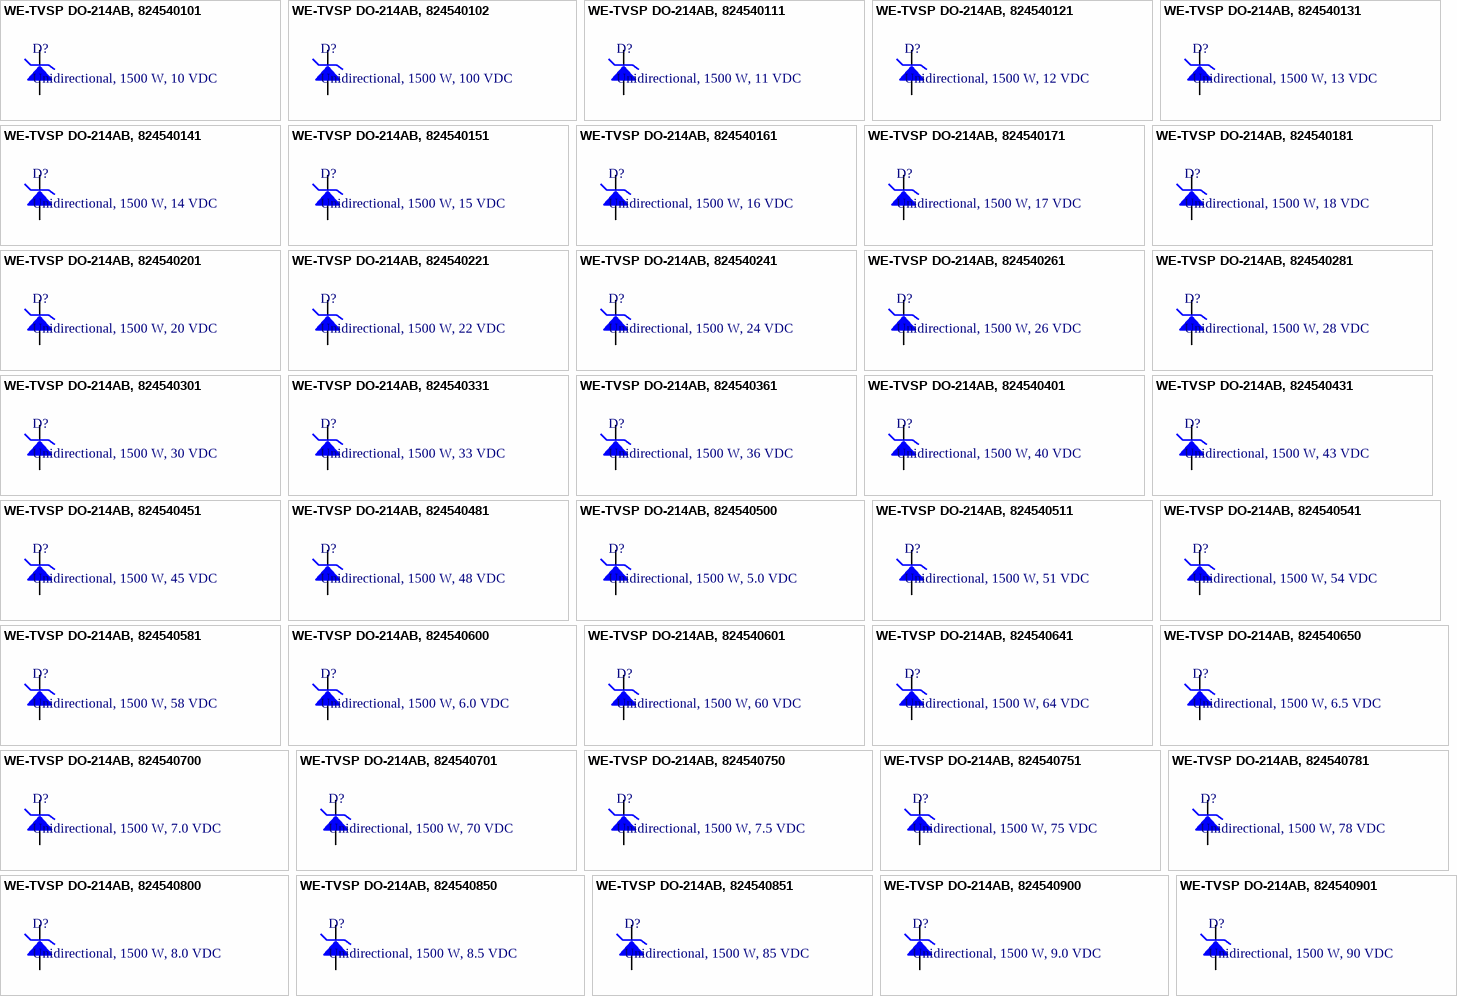
[diagram p2: symbols WE-TVSP DO-214AB, 824540101 to WE-TVSP DO-214AB, 824540901]

## WE-TVSP DO-214AB, 824540101
designator D?, comment Unidirectional, 1500 W, 10 VDC
WE-TVSP Power TVS Diode, Unidirectional, 1500 W, 10 VDC; partNo: 824540101; Manufacturer: Wurth Elektronik; ComponentLink1Description: Manufacturer; ComponentLink1URL: http://www.we-online.de; Created by: Baojun Chen; Created Date: Nov.2015; ComponentLink2Description: Datasheet; ComponentLink2URL: http://katalog.we-online.de/pbs/datasheet/824540101.pdf
footprint DO-214AB_Unidirectional
pins: 1, 2

## WE-TVSP DO-214AB, 824540102
designator D?, comment Unidirectional, 1500 W, 100 VDC
WE-TVSP Power TVS Diode, Unidirectional, 1500 W, 100 VDC; partNo: 824540102; Manufacturer: Wurth Elektronik; ComponentLink1Description: Manufacturer; ComponentLink1URL: http://www.we-online.de; Created by: Baojun Chen; Created Date: Nov.2015; ComponentLink2Description: Datasheet; ComponentLink2URL: http://katalog.we-online.de/pbs/datasheet/824540102.pdf
footprint DO-214AB_Unidirectional
pins: 1, 2

## WE-TVSP DO-214AB, 824540111
designator D?, comment Unidirectional, 1500 W, 11 VDC
WE-TVSP Power TVS Diode, Unidirectional, 1500 W, 11 VDC; partNo: 824540111; Manufacturer: Wurth Elektronik; ComponentLink1Description: Manufacturer; ComponentLink1URL: http://www.we-online.de; Created by: Baojun Chen; Created Date: Nov.2015; ComponentLink2Description: Datasheet; ComponentLink2URL: http://katalog.we-online.de/pbs/datasheet/824540111.pdf
footprint DO-214AB_Unidirectional
pins: 1, 2

## WE-TVSP DO-214AB, 824540121
designator D?, comment Unidirectional, 1500 W, 12 VDC
WE-TVSP Power TVS Diode, Unidirectional, 1500 W, 12 VDC; partNo: 824540121; Manufacturer: Wurth Elektronik; ComponentLink1Description: Manufacturer; ComponentLink1URL: http://www.we-online.de; Created by: Baojun Chen; Created Date: Nov.2015; ComponentLink2Description: Datasheet; ComponentLink2URL: http://katalog.we-online.de/pbs/datasheet/824540121.pdf
footprint DO-214AB_Unidirectional
pins: 1, 2

## WE-TVSP DO-214AB, 824540131
designator D?, comment Unidirectional, 1500 W, 13 VDC
WE-TVSP Power TVS Diode, Unidirectional, 1500 W, 13 VDC; partNo: 824540131; Manufacturer: Wurth Elektronik; ComponentLink1Description: Manufacturer; ComponentLink1URL: http://www.we-online.de; Created by: Baojun Chen; Created Date: Nov.2015; ComponentLink2Description: Datasheet; ComponentLink2URL: http://katalog.we-online.de/pbs/datasheet/824540131.pdf
footprint DO-214AB_Unidirectional
pins: 1, 2

## WE-TVSP DO-214AB, 824540141
designator D?, comment Unidirectional, 1500 W, 14 VDC
WE-TVSP Power TVS Diode, Unidirectional, 1500 W, 14 VDC; partNo: 824540141; Manufacturer: Wurth Elektronik; ComponentLink1Description: Manufacturer; ComponentLink1URL: http://www.we-online.de; Created by: Baojun Chen; Created Date: Nov.2015; ComponentLink2Description: Datasheet; ComponentLink2URL: http://katalog.we-online.de/pbs/datasheet/824540141.pdf
footprint DO-214AB_Unidirectional
pins: 1, 2

## WE-TVSP DO-214AB, 824540151
designator D?, comment Unidirectional, 1500 W, 15 VDC
WE-TVSP Power TVS Diode, Unidirectional, 1500 W, 15 VDC; partNo: 824540151; Manufacturer: Wurth Elektronik; ComponentLink1Description: Manufacturer; ComponentLink1URL: http://www.we-online.de; Created by: Baojun Chen; Created Date: Nov.2015; ComponentLink2Description: Datasheet; ComponentLink2URL: http://katalog.we-online.de/pbs/datasheet/824540151.pdf
footprint DO-214AB_Unidirectional
pins: 1, 2

## WE-TVSP DO-214AB, 824540161
designator D?, comment Unidirectional, 1500 W, 16 VDC
WE-TVSP Power TVS Diode, Unidirectional, 1500 W, 16 VDC; partNo: 824540161; Manufacturer: Wurth Elektronik; ComponentLink1Description: Manufacturer; ComponentLink1URL: http://www.we-online.de; Created by: Baojun Chen; Created Date: Nov.2015; ComponentLink2Description: Datasheet; ComponentLink2URL: http://katalog.we-online.de/pbs/datasheet/824540161.pdf
footprint DO-214AB_Unidirectional
pins: 1, 2

## WE-TVSP DO-214AB, 824540171
designator D?, comment Unidirectional, 1500 W, 17 VDC
WE-TVSP Power TVS Diode, Unidirectional, 1500 W, 17 VDC; partNo: 824540171; Manufacturer: Wurth Elektronik; ComponentLink1Description: Manufacturer; ComponentLink1URL: http://www.we-online.de; Created by: Baojun Chen; Created Date: Nov.2015; ComponentLink2Description: Datasheet; ComponentLink2URL: http://katalog.we-online.de/pbs/datasheet/824540171.pdf
footprint DO-214AB_Unidirectional
pins: 1, 2

## WE-TVSP DO-214AB, 824540181
designator D?, comment Unidirectional, 1500 W, 18 VDC
WE-TVSP Power TVS Diode, Unidirectional, 1500 W, 18 VDC; partNo: 824540181; Manufacturer: Wurth Elektronik; ComponentLink1Description: Manufacturer; ComponentLink1URL: http://www.we-online.de; Created by: Baojun Chen; Created Date: Nov.2015; ComponentLink2Description: Datasheet; ComponentLink2URL: http://katalog.we-online.de/pbs/datasheet/824540181.pdf
footprint DO-214AB_Unidirectional
pins: 1, 2

## WE-TVSP DO-214AB, 824540201
designator D?, comment Unidirectional, 1500 W, 20 VDC
WE-TVSP Power TVS Diode, Unidirectional, 1500 W, 20 VDC; partNo: 824540201; Manufacturer: Wurth Elektronik; ComponentLink1Description: Manufacturer; ComponentLink1URL: http://www.we-online.de; Created by: Baojun Chen; Created Date: Nov.2015; ComponentLink2Description: Datasheet; ComponentLink2URL: http://katalog.we-online.de/pbs/datasheet/824540201.pdf
footprint DO-214AB_Unidirectional
pins: 1, 2

## WE-TVSP DO-214AB, 824540221
designator D?, comment Unidirectional, 1500 W, 22 VDC
WE-TVSP Power TVS Diode, Unidirectional, 1500 W, 22 VDC; partNo: 824540221; Manufacturer: Wurth Elektronik; ComponentLink1Description: Manufacturer; ComponentLink1URL: http://www.we-online.de; Created by: Baojun Chen; Created Date: Nov.2015; ComponentLink2Description: Datasheet; ComponentLink2URL: http://katalog.we-online.de/pbs/datasheet/824540221.pdf
footprint DO-214AB_Unidirectional
pins: 1, 2

## WE-TVSP DO-214AB, 824540241
designator D?, comment Unidirectional, 1500 W, 24 VDC
WE-TVSP Power TVS Diode, Unidirectional, 1500 W, 24 VDC; partNo: 824540241; Manufacturer: Wurth Elektronik; ComponentLink1Description: Manufacturer; ComponentLink1URL: http://www.we-online.de; Created by: Baojun Chen; Created Date: Nov.2015; ComponentLink2Description: Datasheet; ComponentLink2URL: http://katalog.we-online.de/pbs/datasheet/824540241.pdf
footprint DO-214AB_Unidirectional
pins: 1, 2

## WE-TVSP DO-214AB, 824540261
designator D?, comment Unidirectional, 1500 W, 26 VDC
WE-TVSP Power TVS Diode, Unidirectional, 1500 W, 26 VDC; partNo: 824540261; Manufacturer: Wurth Elektronik; ComponentLink1Description: Manufacturer; ComponentLink1URL: http://www.we-online.de; Created by: Baojun Chen; Created Date: Nov.2015; ComponentLink2Description: Datasheet; ComponentLink2URL: http://katalog.we-online.de/pbs/datasheet/824540261.pdf
footprint DO-214AB_Unidirectional
pins: 1, 2

## WE-TVSP DO-214AB, 824540281
designator D?, comment Unidirectional, 1500 W, 28 VDC
WE-TVSP Power TVS Diode, Unidirectional, 1500 W, 28 VDC; partNo: 824540281; Manufacturer: Wurth Elektronik; ComponentLink1Description: Manufacturer; ComponentLink1URL: http://www.we-online.de; Created by: Baojun Chen; Created Date: Nov.2015; ComponentLink2Description: Datasheet; ComponentLink2URL: http://katalog.we-online.de/pbs/datasheet/824540281.pdf
footprint DO-214AB_Unidirectional
pins: 1, 2

## WE-TVSP DO-214AB, 824540301
designator D?, comment Unidirectional, 1500 W, 30 VDC
WE-TVSP Power TVS Diode, Unidirectional, 1500 W, 30 VDC; partNo: 824540301; Manufacturer: Wurth Elektronik; ComponentLink1Description: Manufacturer; ComponentLink1URL: http://www.we-online.de; Created by: Baojun Chen; Created Date: Nov.2015; ComponentLink2Description: Datasheet; ComponentLink2URL: http://katalog.we-online.de/pbs/datasheet/824540301.pdf
footprint DO-214AB_Unidirectional
pins: 1, 2

## WE-TVSP DO-214AB, 824540331
designator D?, comment Unidirectional, 1500 W, 33 VDC
WE-TVSP Power TVS Diode, Unidirectional, 1500 W, 33 VDC; partNo: 824540331; Manufacturer: Wurth Elektronik; ComponentLink1Description: Manufacturer; ComponentLink1URL: http://www.we-online.de; Created by: Baojun Chen; Created Date: Nov.2015; ComponentLink2Description: Datasheet; ComponentLink2URL: http://katalog.we-online.de/pbs/datasheet/824540331.pdf
footprint DO-214AB_Unidirectional
pins: 1, 2

## WE-TVSP DO-214AB, 824540361
designator D?, comment Unidirectional, 1500 W, 36 VDC
WE-TVSP Power TVS Diode, Unidirectional, 1500 W, 36 VDC; partNo: 824540361; Manufacturer: Wurth Elektronik; ComponentLink1Description: Manufacturer; ComponentLink1URL: http://www.we-online.de; Created by: Baojun Chen; Created Date: Nov.2015; ComponentLink2Description: Datasheet; ComponentLink2URL: http://katalog.we-online.de/pbs/datasheet/824540361.pdf
footprint DO-214AB_Unidirectional
pins: 1, 2

## WE-TVSP DO-214AB, 824540401
designator D?, comment Unidirectional, 1500 W, 40 VDC
WE-TVSP Power TVS Diode, Unidirectional, 1500 W, 40 VDC; partNo: 824540401; Manufacturer: Wurth Elektronik; ComponentLink1Description: Manufacturer; ComponentLink1URL: http://www.we-online.de; Created by: Baojun Chen; Created Date: Nov.2015; ComponentLink2Description: Datasheet; ComponentLink2URL: http://katalog.we-online.de/pbs/datasheet/824540401.pdf
footprint DO-214AB_Unidirectional
pins: 1, 2

## WE-TVSP DO-214AB, 824540431
designator D?, comment Unidirectional, 1500 W, 43 VDC
WE-TVSP Power TVS Diode, Unidirectional, 1500 W, 43 VDC; partNo: 824540431; Manufacturer: Wurth Elektronik; ComponentLink1Description: Manufacturer; ComponentLink1URL: http://www.we-online.de; Created by: Baojun Chen; Created Date: Nov.2015; ComponentLink2Description: Datasheet; ComponentLink2URL: http://katalog.we-online.de/pbs/datasheet/824540431.pdf
footprint DO-214AB_Unidirectional
pins: 1, 2

## WE-TVSP DO-214AB, 824540451
designator D?, comment Unidirectional, 1500 W, 45 VDC
WE-TVSP Power TVS Diode, Unidirectional, 1500 W, 45 VDC; partNo: 824540451; Manufacturer: Wurth Elektronik; ComponentLink1Description: Manufacturer; ComponentLink1URL: http://www.we-online.de; Created by: Baojun Chen; Created Date: Nov.2015; ComponentLink2Description: Datasheet; ComponentLink2URL: http://katalog.we-online.de/pbs/datasheet/824540451.pdf
footprint DO-214AB_Unidirectional
pins: 1, 2

## WE-TVSP DO-214AB, 824540481
designator D?, comment Unidirectional, 1500 W, 48 VDC
WE-TVSP Power TVS Diode, Unidirectional, 1500 W, 48 VDC; partNo: 824540481; Manufacturer: Wurth Elektronik; ComponentLink1Description: Manufacturer; ComponentLink1URL: http://www.we-online.de; Created by: Baojun Chen; Created Date: Nov.2015; ComponentLink2Description: Datasheet; ComponentLink2URL: http://katalog.we-online.de/pbs/datasheet/824540481.pdf
footprint DO-214AB_Unidirectional
pins: 1, 2